# Altium footprint library Transistors, Diodes, etc.PcbLib: 33 footprints (part 1 of 3)
Each footprint in its own frame and in the unit in brackets; x right, y up, seen from the top. Pads: shape width x height; smd on the part's side, far side on the other; paste and mask are expansions set on the pad; w line width, h text height; cw(c..) or ccw(c..) is an arc to the next point about the centre after c.
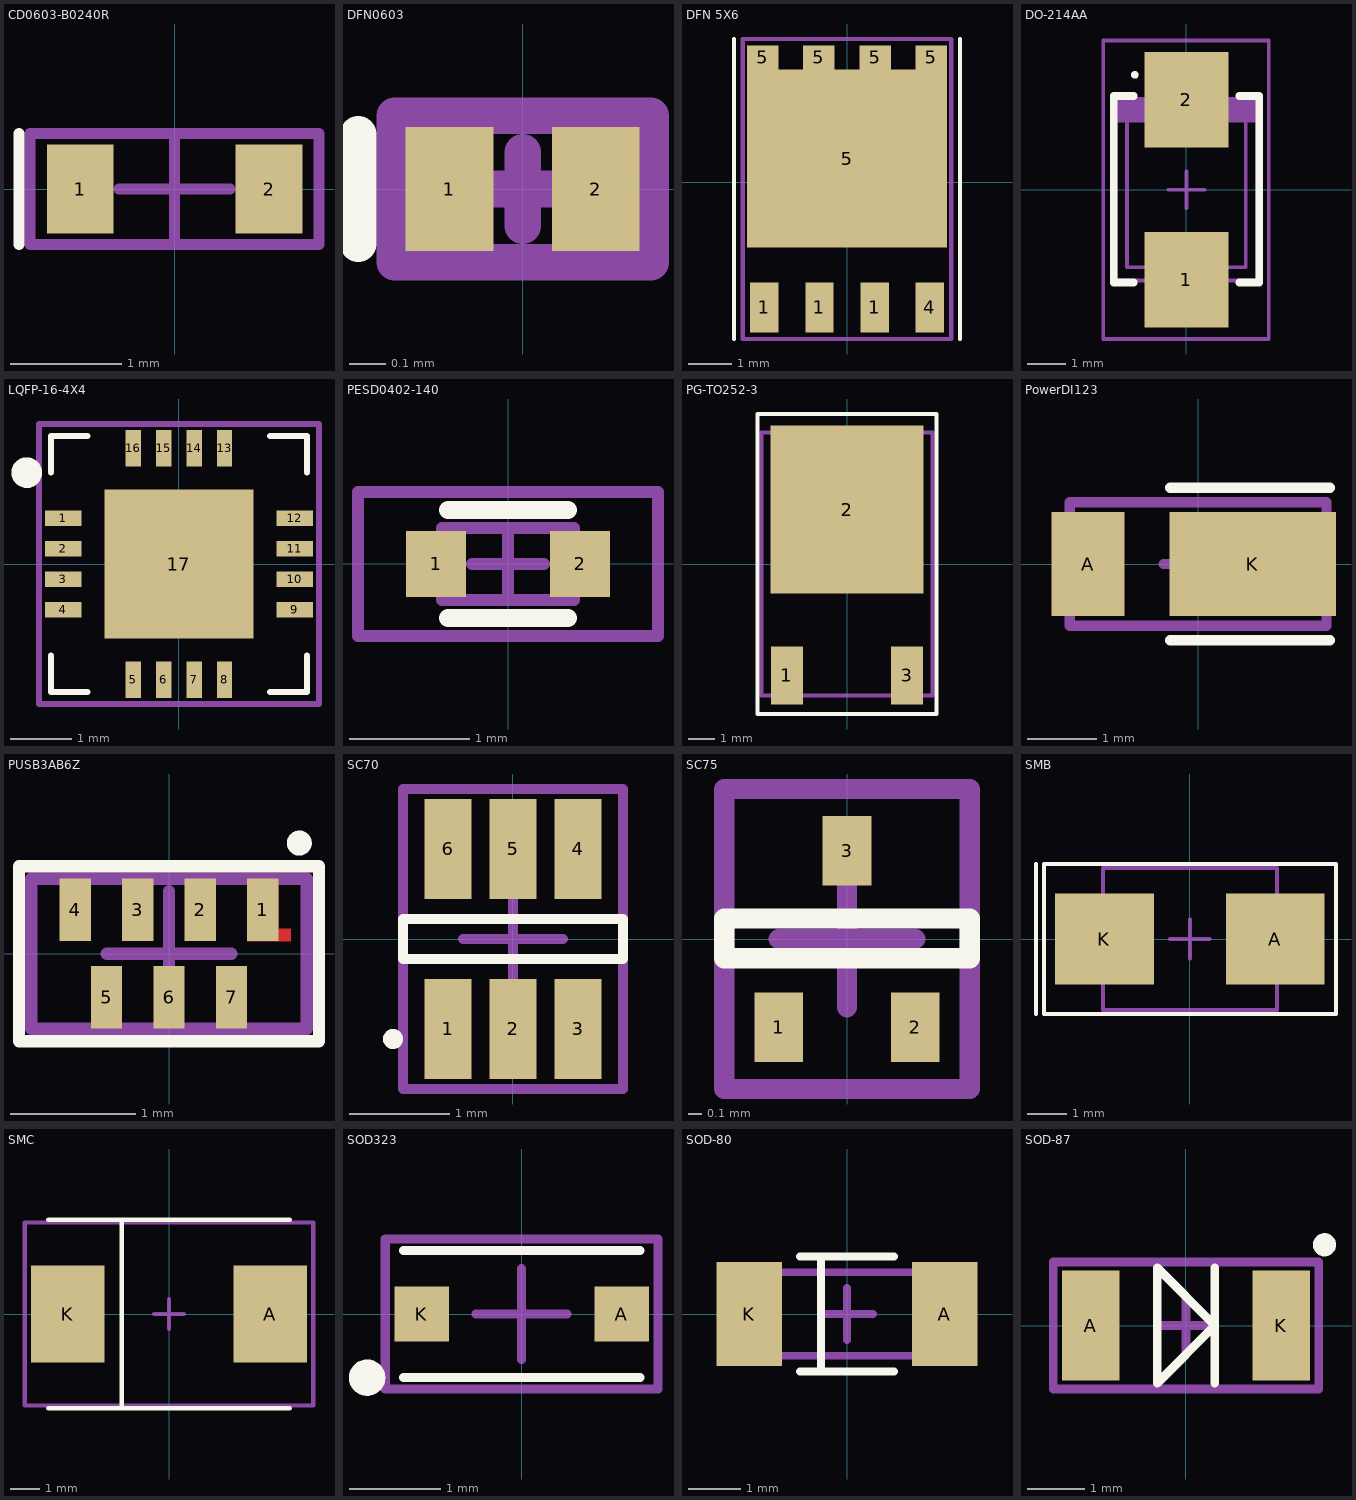
[diagram p0: the footprints below, top view; thin cyan lines are the x and y axes]

## CD0603-B0240R [mm]
pads (2):
  rect 0.6x0.8 smd: 1(-0.85,0) 2(0.85,0)
Top Overlay:
  lines w0.1: -1.4,-0.5 -1.4,0.5
Mechanical 15:
  lines w0.1: -0.5,0 0.5,0 ; 0,-0.5 0,0.5 ; -1.3,-0.5 -1.3,0.5 1.3,0.5 1.3,-0.5 -1.3,-0.5
3D body "mf-fsmf020x-2.stp": height 0.48, standoff 0, extent -0.825,-0.425 0.825,0.425

## DFN0603 [mm]
pads (2):
  rect 0.24x0.34 smd mask+0.03: 1(-0.2,0) 2(0.2,0)
Top Overlay:
  lines w0.1: -0.45,-0.15 -0.45,0.15
Mechanical 15:
  lines w0.1: -0.1,0 0.1,0 ; 0,-0.1 0,0.1 ; -0.35,-0.2 -0.35,0.2 0.35,0.2 0.35,-0.2 -0.35,-0.2
3D body "User Library-DIODFM152A.step": height 0.34, standoff 0, extent -0.33,-0.18 0.33,0.18

## DFN 5X6 [mm]
pads (9):
  rect 0.65x1.15 smd mask+0.05: 1(-1.905,-2.875) 1(-0.635,-2.875) 1(0.635,-2.875) 4(1.905,-2.875)
  rect 0.725x0.55 smd mask+0.05: 5(-1.937,2.875) 5(-0.646,2.875) 5(0.646,2.875) 5(1.937,2.875)
  rect 4.6x4.1 smd mask+0.05: 5(0,0.55)
Top Overlay:
  lines w0.1: -2.6,-3.6 -2.6,3.3 ; 2.6,-3.6 2.6,3.3
Mechanical 15:
  lines w0.1: -0.5,0 0.5,0 ; 0,-0.5 0,0.5 ; -2.4,-3.6 2.4,-3.6 2.4,3.3 -2.4,3.3 -2.4,-3.6
3D body "User Library-Power_Flat_5x6.step": height 0.95, standoff -0.04, extent -2.6,-3.175 2.6,2.975

## DO-214AA [mm]
pads (2):
  rect 2.2x2.5 smd: 1(0,-2.35) 2(0,2.35)
Top Overlay:
  circle w0.1: c-1.35,3 r0.05
  lines w0.2: -1.375,-2.425 -1.9,-2.425 -1.9,2.45 -1.375,2.45 ; 1.375,-2.425 1.9,-2.425 1.9,2.45 1.375,2.45
Mechanical 1:
  lines w0.1: -1.55,2.025 -1.55,-2.025 1.55,-2.025 1.55,2.025
Mechanical 13:
  region: 1.85,1.75 1.85,2.425 -1.85,2.425 -1.85,1.75
  lines w0.1: -1.85,2.375 -1.85,-2.375 1.85,-2.375 1.85,2.375
Mechanical 15:
  lines w0.1: -0.475,0 0.475,0 ; 0,-0.475 0,0.475 ; -2.175,-3.9 -2.175,3.9 2.15,3.9 2.15,-3.9 -2.175,-3.9
3D body "SMB.STEP": height 2.4, standoff 0, extent -1.9,-2.8 1.9,2.8

## LQFP-16-4X4 [mm]
pads (17):
  rect 0.6x0.25 smd mask+0.05: 1(-1.9,0.75) 2(-1.9,0.25) 3(-1.9,-0.25) 4(-1.9,-0.75) 9(1.9,-0.75) 10(1.9,-0.25) 11(1.9,0.25) 12(1.9,0.75)
  rect 0.25x0.6 smd mask+0.05: 5(-0.75,-1.9) 6(-0.25,-1.9) 7(0.25,-1.9) 8(0.75,-1.9) 13(0.75,1.9) 14(0.25,1.9) 15(-0.25,1.9) 16(-0.75,1.9)
  rect 2.45x2.45 smd mask+0.05: 17(0,0)
Top Overlay:
  circle w0.25: c-2.5,1.5 r0.127
  lines w0.1: -2.1,-1.5 -2.1,-2.1 -1.5,-2.1 ; -2.1,1.5 -2.1,2.1 -1.5,2.1 ; 1.5,-2.1 2.1,-2.1 2.1,-1.5 ; 1.5,2.1 2.1,2.1 2.1,1.5
Mechanical 15:
  lines w0.1: -0.5,0 0.5,0 ; 0,-0.5 0,0.5 ; -2.3,-2.3 -2.3,2.3 2.3,2.3 2.3,-2.3 -2.3,-2.3
3D body "User Library-WQFN-16 4x4mm 0_5mmPitch.step": height 0.8, standoff -0.01, extent -2.01,-2.01 2.01,2.01

## PESD0402-140 [mm]
pads (2):
  rect 0.5x0.55 smd: 1(-0.6,0) 2(0.6,0)
Top Overlay:
  lines w0.15: -0.5,-0.45 0.5,-0.45 ; -0.5,0.45 0.5,0.45
Mechanical 13:
  lines w0.1: -0.55,-0.3 0.55,-0.3 0.55,0.3 -0.55,0.3 -0.55,-0.3
Mechanical 15:
  lines w0.1: -0.3,0 0.3,0 ; 0,-0.3 0,0.3 ; -1.25,-0.6 1.25,-0.6 1.25,0.6 -1.25,0.6 -1.25,-0.6
3D body "User Library-Fast Acting Surface-Mount Fuses.step": height 0.51, standoff 0, extent -0.5,-0.256 0.5,0.256

## PG-TO252-3 [mm]
pads (3):
  rect 1.2x2.2 smd: 1(-2.28,-4.23) 3(2.28,-4.23)
  rect 5.8x6.4 smd: 2(0,2.07)
Top Overlay:
  lines w0.15: -3.4,-5.7 3.4,-5.7 3.4,5.7 -3.4,5.7 -3.4,-5.7
Mechanical 13:
  lines w0.15: -1,0 1,0 ; 0,-1 0,1 ; -3.25,-5 3.25,-5 3.25,5 -3.25,5 -3.25,-5
3D body "CircuitWorks-TO-252.step": height 2.3, standoff 0, extent -3.29,-4.873 3.29,4.827

## PowerDI123 [mm]
height 1
pads (2):
  rect 1.05x1.5 smd: A(-1.587,0)
  rect 2.4x1.5 smd: K(0.788,0)
Top Overlay:
  lines w0.15: -0.4,-1.1 1.9,-1.1 ; -0.4,1.1 1.9,1.1
Mechanical 13:
  lines w0.15: -0.5,0 0.5,0 ; 0,-0.5 0,0.5 ; -1.85,-0.89 -1.85,0.89 1.85,0.89 1.85,-0.89 -1.85,-0.89
3D body "User Library-powerdi123.step": height 1, standoff 0, extent -2,-0.965 1.875,0.965

## PUSB3AB6Z [mm] "1,1x2,1x0,5 mm"
height 0.5
pads (7):
  rect 0.25x0.5 smd mask+0.05: 1(0.75,0.35) 2(0.25,0.35) 3(-0.25,0.35) 4(-0.75,0.35) 5(-0.5,-0.35) 6(0,-0.35) 7(0.5,-0.35)
Top Layer:
  region: 0.625,0.6 0.875,0.6 0.875,0.2 0.975,0.2 0.975,0.1 0.625,0.1
Top Overlay:
  circle w0.1: c1.043,0.885 r0.05
  lines w0.1: -1.2,-0.7 -1.2,0.7 1.2,0.7 1.2,-0.7 -1.2,-0.7
Top Solder:
  region: 0.574,0.65 0.925,0.65 0.925,0.25 1.025,0.25 1.025,0.049 0.574,0.049
Mechanical 15:
  lines w0.1: -0.5,0 0.5,0 ; 0,-0.5 0,0.5 ; -1.1,-0.6 -1.1,0.6 1.1,0.6 1.1,-0.6 -1.1,-0.6

## SC70 [mm]
pads (6):
  rect 0.47x1 smd mask+0.05: 1(-0.65,-0.9) 2(0,-0.9) 3(0.65,-0.9) 4(0.65,0.9) 5(0,0.9) 6(-0.65,0.9)
Top Overlay:
  circle w0.1: c-1.2,-1 r0.05
  lines w0.1: -1.1,-0.2 -1.1,0.2 1.1,0.2 1.1,-0.2 -1.1,-0.2
Mechanical 15:
  lines w0.1: -0.5,0 0.5,0 ; 0,-0.5 0,0.5 ; -1.1,-1.5 1.1,-1.5 1.1,1.5 -1.1,1.5 -1.1,-1.5
3D body "User Library-sot363.step": height 1, standoff 0, extent -1.05,-1.15 1.05,1.15

## SC75 [mil]
pads (3):
  rect 14.02x20 smd: 1(-19.68,-25.49) 2(19.69,-25.49) 3(0,25.49)
Top Overlay:
  lines w5.91: -35.43,-5.51 35.43,-5.51 35.43,5.92 -35.43,5.92 -35.43,-5.51
Mechanical 15:
  lines w5.91: -19.68,0 19.68,0 ; 0,-19.68 0,19.68 ; -35.43,-43.31 -35.43,43.31 35.43,43.31 35.43,-43.31 -35.43,-43.31
3D body "User Library-SC-75A.STEP": height 27.67, standoff -0.25, extent -31.5,-31.1 31.5,31.89

## SMB [mm]
pads (2):
  rect 2.5x2.3 smd: A(2.165,0) K(-2.165,0)
Top Overlay:
  lines w0.1: -3.9,-1.9 -3.9,1.9 ; -3.7,-1.9 -3.7,1.9 3.7,1.9 3.7,-1.9 -3.7,-1.9
Mechanical 13:
  lines w0.1: -0.5,0 0.5,0 ; 0,-0.5 0,0.5 ; -2.2,-1.8 2.2,-1.8 2.2,1.8 -2.2,1.8 -2.2,-1.8
3D body "User Library-DO-214AA SMB.step": height 2.3, standoff 0, extent -2.7,-1.8 2.7,1.8

## SMC [mm]
height 2.5
pads (2):
  rect 2.5x3.3 smd: A(3.45,0) K(-3.45,0)
Top Overlay:
  lines w0.15: -4.1,-3.2 4.1,-3.2 ; -4.1,3.2 4.1,3.2 ; -1.6,-3.2 -1.6,3.2
Mechanical 13:
  lines w0.15: -0.5,0 0.5,0 ; 0,-0.5 0,0.5 ; -4.9,-3.11 -4.9,3.11 4.9,3.11 4.9,-3.11 -4.9,-3.11
3D body "User Library-DIOM8261X24.step": height 2.35, standoff -0.02, extent -4.065,-3.05 4.065,3.05

## SOD323 [mm]
height 1.1
pads (2):
  rect 0.6x0.6 smd: A(1.1,0) K(-1.1,0)
Top Overlay:
  circle w0.2: c-1.7,-0.7 r0.1
  lines w0.1: -1.3,-0.7 1.3,-0.7 ; -1.3,0.7 1.3,0.7
Mechanical 13:
  lines w0.1: -0.5,0 0.5,0 ; 0,-0.5 0,0.5 ; -1.5,-0.825 -1.5,0.825 1.5,0.825 1.5,-0.825 -1.5,-0.825
3D body "User Library-SOD2513X11.step": height 1.1, standoff 0, extent -1.35,-0.625 1.35,0.625

## SOD-80 [mm]
height 1.4
pads (2):
  rect 1.25x2 smd: A(1.875,0) K(-1.875,0)
Top Overlay:
  lines w0.15: -0.9,-1.1 0.9,-1.1 ; -0.9,1.1 0.9,1.1 ; -0.5,-1.1 -0.5,1.1
Mechanical 13:
  lines w0.15: -0.5,0 0.5,0 ; 0,-0.5 0,0.5 ; -1.8,-0.8 -1.8,0.8 1.8,0.8 1.8,-0.8 -1.8,-0.8
3D body "User Library-SOD80-3.STEP": height 1.5, standoff 0, extent -1.8,-0.7 1.8,0.8

## SOD-87 [mm]
pads (2):
  rect 1x1.9 smd: A(-1.65,0) K(1.65,0)
Top Overlay:
  circle w0.2: c2.4,1.4 r0.1
  lines w0.15: 0.5,-1 0.5,1 ; -0.5,-1 -0.5,1 0.5,0 -0.5,-1
Mechanical 13:
  lines w0.15: -0.5,0 0.5,0 ; 0,-0.5 0,0.5 ; -2.3,-1.1 2.3,-1.1 2.3,1.1 -2.3,1.1 -2.3,-1.1
3D body "User Library-SOD87.step": height 1.16, standoff 0, extent -1.75,-1 1.75,1